# Altium integrated library 74HC595D.IntLib: 1 symbol
Pins are listed as number, name and electrical type; pins without a type are passive.

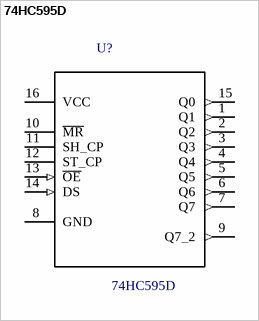
[diagram p0: symbol 74HC595D]

## 74HC595D
designator U?
Shift Register Single 8-Bit Serial to Serial/Parallel 16-Pin SO; MF: Toshiba; Price: None; MP: 74HC595D; SnapEDA_Link: https://www.snapeda.com/parts/74HC595D/Toshiba%20Semiconductor%20and%20Storage/view-part/?ref=snap; Package: SOIC-16 NXP Semiconductors; Availability: Unavailable; Value: *
footprint SOIC127P600X175-16N
pins: 1 Q1 (out), 2 Q2 (out), 3 Q3 (out), 4 Q4 (out), 5 Q5 (out), 6 Q6 (out), 7 Q7 (out), 8 GND, 9 Q7_2 (out), 10 ~{MR}, 11 SH_CP, 12 ST_CP, 13 ~{OE} (in), 14 DS (in), 15 Q0 (out), 16 VCC (power)